# Altium footprint library SHDRRA12W55P200_2X6_1465X640X630P.PcbLib: 1 footprints
Each footprint in its own frame and in the unit in brackets; x right, y up, seen from the top. Pads: shape width x height; smd on the part's side, far side on the other; paste and mask are expansions set on the pad; w line width, h text height; cw(c..) or ccw(c..) is an arc to the next point about the centre after c.
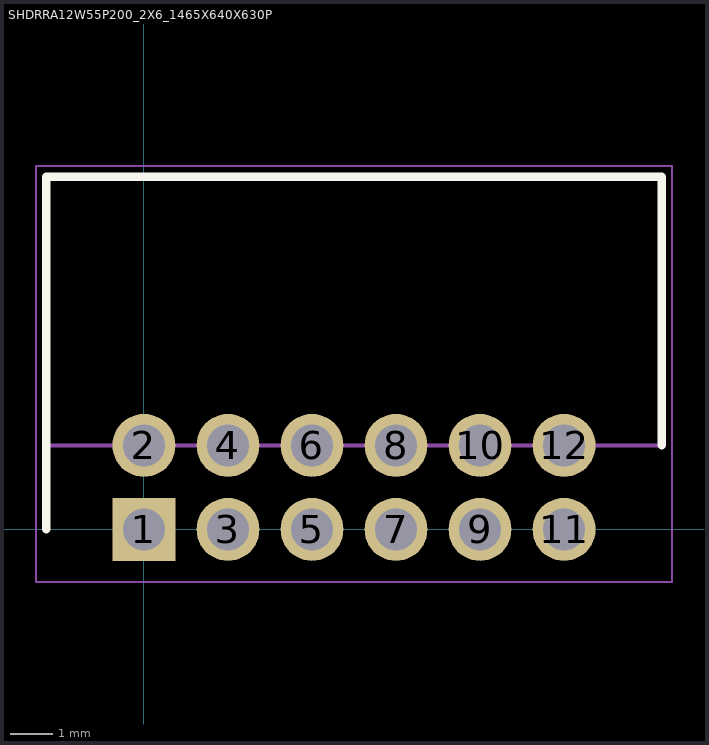
[diagram p0: the footprint, top view; thin cyan lines are the x and y axes]

## SHDRRA12W55P200_2X6_1465X640X630P [mm]
pads (12):
  rect 1.5x1.5 / inner round 1.5 / far side rect 1.5x1.5 hole 1: 1(0,0)
  round 1.5 hole 1: 2(0,2) 3(2,0) 4(2,2) 5(4,0) 6(4,2) 7(6,0) 8(6,2) 9(8,0) 10(8,2) 11(10,0) 12(10,2)
Top Overlay:
  lines w0.2: -2.325,0 -2.325,8.4 12.325,8.4 12.325,2
Mechanical 15:
  lines w0.1: -2.325,2 12.325,2 12.325,8.4 -2.325,8.4 -2.325,2
Mechanical 20:
  lines w0.05: -2.575,-1.25 -2.575,8.65 12.575,8.65 12.575,-1.25 -2.575,-1.25
3D body "87833-1220.stp": height 6.4, standoff -2.06, extent -2.245,-0.243 12.405,8.407